# Altium schematic symbol library Mechanical.SchLib: 24 symbols
Pins are listed as number, name and electrical type; pins without a type are passive.

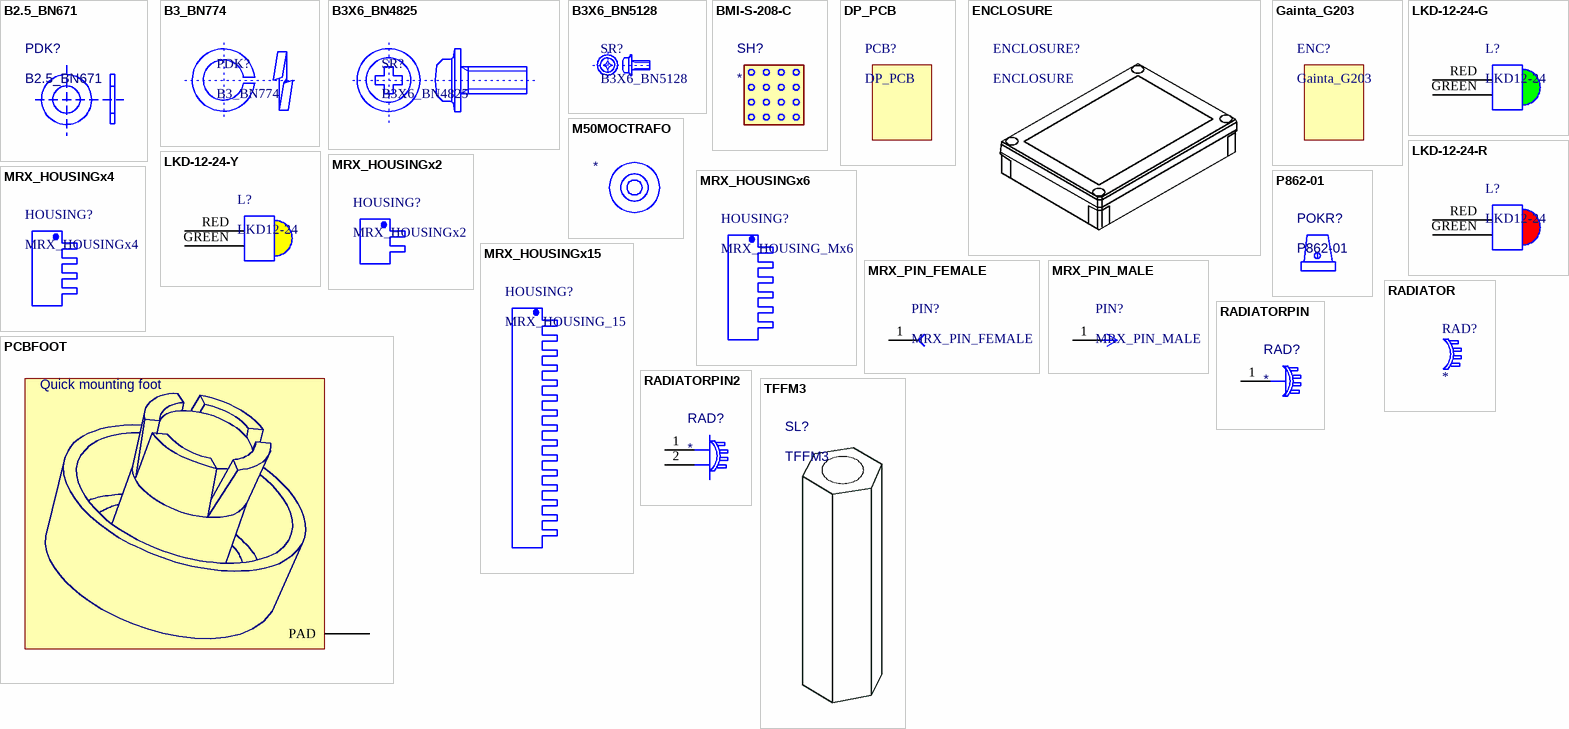
[diagram p0: symbols B2.5_BN671 to TFFM3]

## B2.5_BN671
designator PDK?
Value: B2.5_BN671

## B3_BN774
designator PDK?
Value: B3_BN774

## B3X6_BN4825
designator SR?  (mechanical)
Value: B3X6_BN4825

## B3X6_BN5128
designator SR?
Value: B3X6_BN5128

## BMI-S-208-C
designator SH?  (mechanical)
Value: *

## DP_PCB
designator PCB?  (mechanical)
Value: DP_PCB

## ENCLOSURE
designator ENCLOSURE?
Value: ENCLOSURE

## Gainta_G203
designator ENC?  (mechanical)
Value: Gainta_G203

## LKD-12-24-G
designator L?, comment LKD12-24
Value: LKD12-24
pins: GREEN 2, RED 1

## LKD-12-24-R
designator L?, comment LKD12-24
Value: LKD12-24
pins: GREEN 2, RED 1

## LKD-12-24-Y
designator L?, comment LKD12-24
Value: LKD12-24
pins: GREEN 2, RED 1

## M50MOCTRAFO
designator FIT?  (mechanical)
Value: *

## MRX_HOUSINGx2
designator HOUSING?
Value: MRX_HOUSINGx2

## MRX_HOUSINGx4
designator HOUSING?
Value: MRX_HOUSINGx4

## MRX_HOUSINGx6
designator HOUSING?, comment MRX_HOUSING_Mx6
Value: MRX_HOUSING_Mx6

## MRX_HOUSINGx15
designator HOUSING?, comment MRX_HOUSING_15
Value: MRX_HOUSING_15

## MRX_PIN_FEMALE
designator PIN?
Value: MRX_PIN_FEMALE
pins: 1

## MRX_PIN_MALE
designator PIN?
Value: MRX_PIN_MALE
pins: 1

## P862-01
designator POKR?  (mechanical)
Value: P862-01

## PCBFOOT
designator FOOT?  (value not drawn)
Value: PCBFOOT
pins: 1 PAD
text: Quick mounting foot

## RADIATOR
designator RAD?
footprint RADTO220V2

## RADIATORPIN
designator RAD?
Value: *
pins: 1

## RADIATORPIN2
designator RAD?
Value: *
pins: 1, 2

## TFFM3
designator SL?  (mechanical)
Value: TFFM3